# Altium schematic symbol library SCH - POWER - LINEAR VREG - TI TPS7A65-Q1KVU.SchLib: 1 symbol
Pins are listed as number, name and electrical type; pins without a type are passive.

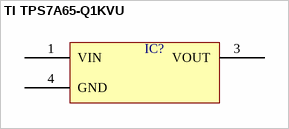
[diagram p0: symbol TI TPS7A65-Q1KVU]

## TI TPS7A65-Q1KVU
designator IC?  (value not drawn)
pins: 1 VIN, 3 VOUT, 4 GND